# Altium schematic symbol library Capacitors.SchLib: 2 symbols
Pins are listed as number, name and electrical type; pins without a type are passive.

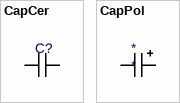
[diagram p0: symbols CapCer to CapPol]

## CapCer
designator C?  (value not drawn)
footprint C0603 (Chip_Capasitor_0603)
footprint C0805 (Chip_Capasitor_0805)
footprint С1206 (Chip_Capasitor_1206)
pins: 1, 2

## CapPol
designator *
pins: 1, 2